# Altium schematic symbol library DIODE TVS 26VWM 53.5VC SMA.Schlib: 1 symbol
Pins are listed as number, name and electrical type; pins without a type are passive.

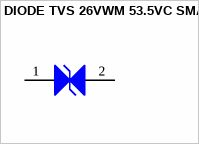
[diagram p0: symbol DIODE TVS 26VWM 53.5VC SMA]

## DIODE TVS 26VWM 53.5VC SMA
designator D?, comment TVS
TVS DIODE 26V 53.5V SMA
footprint DO-214AC, SMA
pins: 1 K, 2 A